# EAGLE library part ?M12B-SRSS-TB (library jack_connector)
Disconnectable Crimp style connector, 1.0mm pitch 12 contacts
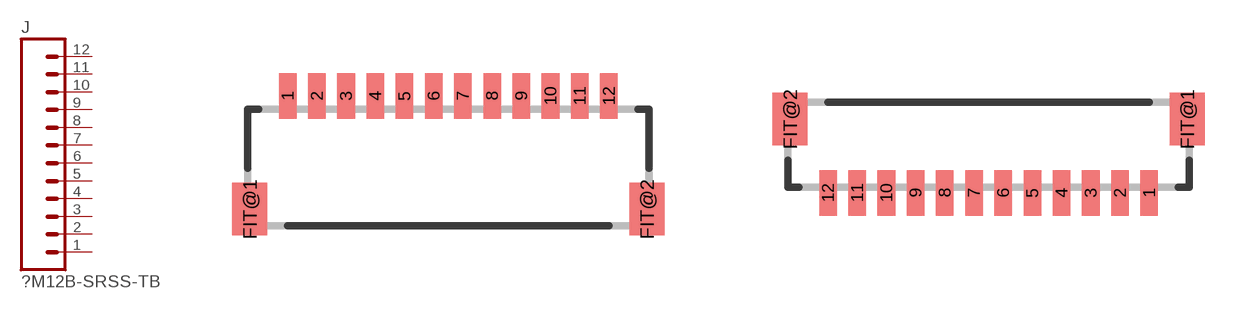
[diagram p11: symbol with the pads of SM12B-SRSS-TB; footprints SM12B-SRSS-TB, BM12B-SRSS-TB]

Designator prefix J

## SM12B-SRSS-TB  [SM12B-SRSS-TB]
1  1  pas
2  2  pas
3  3  pas
4  4  pas
5  5  pas
6  6  pas
7  7  pas
8  8  pas
9  9  pas
10  10  pas
11  11  pas
12  12  pas

## BM12B-SRSS-TB  [BM12B-SRSS-TB]
Pads as for SM12B-SRSS-TB

## Footprint SM12B-SRSS-TB (pad centres in mm)
Shrouded Header, side entry type https://www.digikey.com/product-detail/en/jst-sales-america-inc/SM12B-SRSS-TB-LF-SN/455-1812-1-ND/926883
smd 0.6 x 1.55: 1 -5.5,2.975; 2 -4.5,2.975; 3 -3.5,2.975; 4 -2.5,2.975; 5 -1.5,2.975; 6 -0.5,2.975; 7 0.5,2.975; 8 1.5,2.975; 9 2.5,2.975; 10 3.5,2.975; 11 4.5,2.975; 12 5.5,2.975
smd 1.2 x 1.8: FIT@1 -6.8,-0.9; FIT@2 6.8,-0.9

## Footprint BM12B-SRSS-TB (pad centres in mm)
Shrouded Header, top entry type https://www.digikey.com/product-detail/en/jst-sales-america-inc/BM12B-SRSS-TB-LF-SN/455-1798-1-ND/926869
smd 0.6 x 1.55: 1 5.5,-1.625; 2 4.5,-1.625; 3 3.5,-1.625; 4 2.5,-1.625; 5 1.5,-1.625; 6 0.5,-1.625; 7 -0.5,-1.625; 8 -1.5,-1.625; 9 -2.5,-1.625; 10 -3.5,-1.625; 11 -4.5,-1.625; 12 -5.5,-1.625
smd 1.2 x 1.8: FIT@1 6.8,0.9; FIT@2 -6.8,0.9